# Altium integrated library power.IntLib: 11 symbols
Pins are listed as number, name and electrical type; pins without a type are passive.

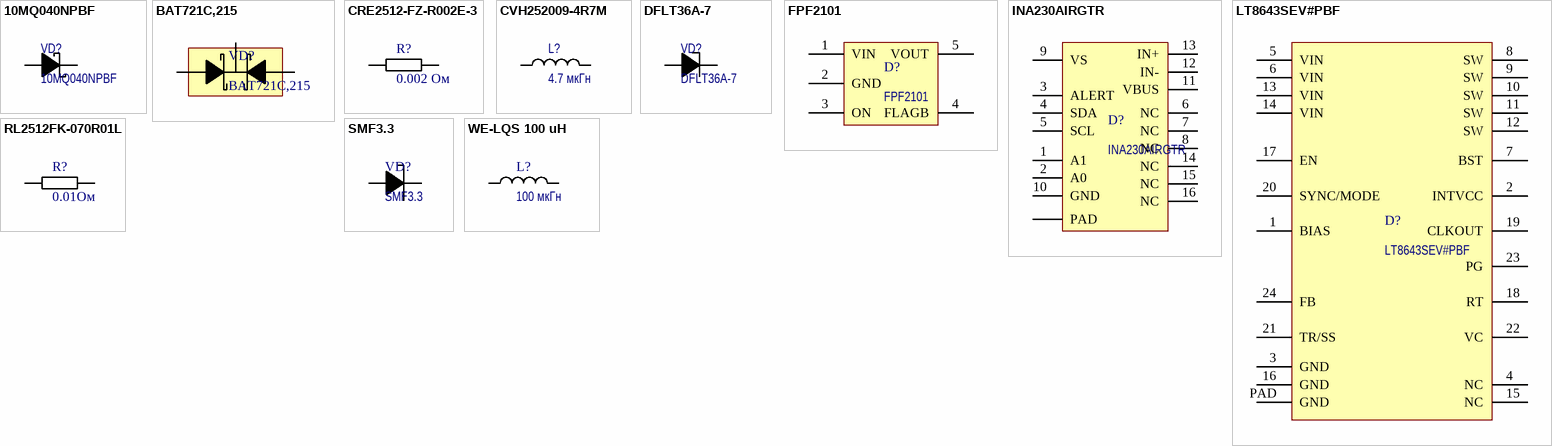
[diagram p0: symbols 10MQ040NPBF to WE-LQS 100 uH]

## 10MQ040NPBF
designator VD?
DIODE, SCHOTTKY, 1.5A, 40V; Manufacturer Part Number: 10MQ040NPBF; Supplier 1: https://www.chipdip.ru/product0/8001036515
footprint DO-214AC (SMA)
pins: 1 A, 2 K

## BAT721C,215
designator VD?
Small Signal Schottky Diode, Dual Common Cathode, 40 V, 200 mA, 300 mV, 1 A, 150 C; Manufacturer: Nexperia; Forward Current: 200mA; Max Forward Surge Current (Ifsm): 1A; Forward Voltage: 450mV; Max Reverse Current: 15uA; Value: 40pF; Reverse Voltage: 40V; Supplier: Rs; Supplier Part Number: 1661370; Manufacturer Part Number: BAT721C,215; RoHS: Yes; Category: Rectifier Diodes; Stock: 26600; Pricing: 3000=0,033 (GBP); Pins: 3NUMBER; Max Operating Temperature: 125°C; Height: 1.1mm; ComponentLink1URL: http://www.farnell.com/datasheets/2849919.pdf?src-supplier=Farnell; ComponentLink1Description: http://www.farnell.com/datasheets/2849919.pdf?src-supplier=Farnell; Supplier 1: https://www.chipdip.ru/product0/8001920743
footprint SOT95P230X110-3N
pins: 1 A, 2 A, 3 C

## CRE2512-FZ-R002E-3
designator R?, comment 0.002 Ом
Res Thick Film 2512 2m Ohm 1% 3W ±75ppm/°C Molded SMD Embossed T/R; Manufacturer: Bourns; Manufacturer Part Number: CRE2512-FZ-R002E-3; Value: 2mR; Supplier: Avnet; Supplier Part Number: CRE2512-FZ-R002E-3; RoHS: No; Category: Chip SMD Resistors; Stock: 8000; Pricing: 4000=0,284, 8000=0,278, 16000=0,272, 24000=0,266, 32000=0,26 (USD); Mounting Technology: Surface Mount; Case/Package: 2512; Case Code (Metric): 6432; Case Code (Imperial): 2512; Contact Plating: Tin; Min Operating Temperature: -55°C; Max Operating Temperature: 170°C; Power Rating: 3W; Tolerance: 1%; Packaging: Cut Tape; Resistor Type: Metal Alloy; Number of Terminations: 2; Termination: Solder; Max Power Dissipation: 3W; Temperature Coefficient: 75ppm/°C; Features: Moisture Resistant,Automotive AEC-Q200; Series: CRE2512; Resistance Tolerance: 1%; Technology: METAL STRIP; Length: 0.254inch; Width: 0.132inch; Height: 0.035inch; Depth: 3.35mm; Ratings: AEC-Q200; Reach SVHC Compliant: No; ComponentLink1URL: https://datasheet.ciiva.com/46424/1838634-46424789.pdf?src-supplier=Element14; ComponentLink1Description: https://datasheet.ciiva.com/46424/1838634-46424789.pdf?src-supplier=Element14; Supplier 1: https://www.chipdip.ru/product0/8001599140
footprint RES-2512
pins: 1, 2

## CVH252009-4R7M
designator L?, comment 4.7 мкГн
Inductor Power Chip Shielded Multi-Layer 4.7uH 20% 1MHz Ferrite 1.1A 110mOhm DCR 1008 T/R; Manufacturer: Bourns; Manufacturer Part Number: CVH252009-4R7M; Supplier: Rs; Supplier Part Number: 1808878; RoHS: Yes; Category: Fixed Inductors; Stock: 495; Pricing: 3000=25,352 (RUB); ComponentLink1URL: https://datasheet.ciiva.com/8003/1610598-8003733.pdf?src-supplier=Element14; ComponentLink1Description: https://datasheet.ciiva.com/8003/1610598-8003733.pdf?src-supplier=Element14; ComponentLink2URL: https://datasheet.ciiva.com/7849/1610598-7849319.pdf?src-supplier=Element14; ComponentLink2Description: https://datasheet.ciiva.com/7849/1610598-7849319.pdf?src-supplier=Element14; ComponentLink3URL: https://datasheet.ciiva.com/22874/70301233-22874397.pdf?src-supplier=Allied+Electronics; ComponentLink3Description: https://datasheet.ciiva.com/22874/70301233-22874397.pdf?src-supplier=Allied+Electronics; ComponentLink4URL: https://datasheet.ciiva.com/3079/cvh-3079748.pdf?src-supplier=Avnet; ComponentLink4Description: https://datasheet.ciiva.com/3079/cvh-3079748.pdf?src-supplier=Avnet; Supplier 1: https://www.chipdip.ru/product0/8002027222
footprint IND_1008
pins: 1, 2

## DFLT36A-7
designator VD?
Diode TVS Single Uni-Dir 36V 1.125KW 2-Pin PowerDI 123 T/R; Manufacturer: Diodes; Supplier: Arrow Electronics; Supplier Part Number: DFLT36A-7; Manufacturer Part Number: DFLT36A-7; RoHS: No; Category: TVS Diodes; Stock: 9000; Pricing: 3000=0,1109, 9000=0,0804 (USD); ComponentLink1URL: https://datasheet.ciiva.com/4511/ds30581-62296-4511072.pdf?src-supplier=Mouser; ComponentLink1Description: https://datasheet.ciiva.com/4511/ds30581-62296-4511072.pdf?src-supplier=Mouser; Supplier 1: https://www.chipdip.ru/product0/8001036515
footprint PowerDI-123
pins: 1 A, 2 K

## FPF2101
designator D?
FPF2101 Series 5.5 V 200 mA 160 mOhm P-Channel High Side Load Switch - SOT-23-5; Manufacturer: ON Semiconductor / Fairchild; Supplier: Arrow Electronics; Supplier Part Number: FPF2101; Manufacturer Part Number: FPF2101; RoHS: Yes; Category: Integrated Circuits (ICs); Stock: 74; Pricing: 1=0,7626, 10=0,722, 25=0,7007, 50=0,4848 (USD); ComponentLink1URL: https://datasheet.ciiva.com/3232/fpf2107-3232640.pdf?src-supplier=Avnet; ComponentLink1Description: https://datasheet.ciiva.com/3232/fpf2107-3232640.pdf?src-supplier=Avnet; ComponentLink2URL: https://datasheet.ciiva.com/15109/getdatasheetpartid-542876-15109156.pdf?src-supplier=Verical; ComponentLink2Description: https://datasheet.ciiva.com/15109/getdatasheetpartid-542876-15109156.pdf?src-supplier=Verical; ComponentLink3URL: https://datasheet.ciiva.com/4898/fpf2101-194974-4898421.pdf?src-supplier=Mouser; ComponentLink3Description: https://datasheet.ciiva.com/4898/fpf2101-194974-4898421.pdf?src-supplier=Mouser; ComponentLink4URL: https://datasheet.ciiva.com/3233/fpf2107-3233094.pdf?src-supplier=Avnet; ComponentLink4Description: https://datasheet.ciiva.com/3233/fpf2107-3233094.pdf?src-supplier=Avnet; ComponentLink5URL: https://datasheet.ciiva.com/1962/fpf2100-1962115.pdf?src-supplier=Digikey; ComponentLink5Description: https://datasheet.ciiva.com/1962/fpf2100-1962115.pdf?src-supplier=Digikey; ComponentLink6URL: https://datasheet.ciiva.com/1962/fpf2100-1962116.pdf?src-supplier=Digikey; ComponentLink6Description: https://datasheet.ciiva.com/1962/fpf2100-1962116.pdf?src-supplier=Digikey; ComponentLink7URL: https://datasheet.ciiva.com/1962/fpf2100-1962117.pdf?src-supplier=Digikey; ComponentLink7Description: https://datasheet.ciiva.com/1962/fpf2100-1962117.pdf?src-supplier=Digikey; ComponentLink8URL: https://datasheet.ciiva.com/1512/278716-1512464.pdf?src-supplier=Element14; ComponentLink8Description: https://datasheet.ciiva.com/1512/278716-1512464.pdf?src-supplier=Element14; Supplier 1: https://www.chipdip.ru/product0/8008458783
footprint SOT23
pins: 1 VIN, 2 GND, 3 ON, 4 FLAGB, 5 VOUT

## INA230AIRGTR
designator D?
36-V, 16-bit, I²C output current, voltage and power monitor with alert 16-VQFN -40 to 125; Manufacturer: Texas Instruments; Supplier: Digikey; Supplier Part Number: 296-36594-1-ND; Manufacturer Part Number: INA230AIRGTR; RoHS: Yes; Category: Amplifiers - Op Amps, Buffer, Instrumentation; Stock: 3132; Pricing: 1=2,83, 10=2,543, 25=2,3988, 100=2,0437, 250=1,919, 500=1,67912, 1000=1,39128 (USD); ComponentLink1URL: https://datasheet.ciiva.com/15132/getdatasheetpartid-614336-15132773.pdf?src-supplier=Verical; ComponentLink1Description: https://datasheet.ciiva.com/15132/getdatasheetpartid-614336-15132773.pdf?src-supplier=Verical; ComponentLink2URL: https://datasheet.ciiva.com/2965/ina230-2965732.pdf?src-supplier=Avnet; ComponentLink2Description: https://datasheet.ciiva.com/2965/ina230-2965732.pdf?src-supplier=Avnet; ComponentLink3URL: https://datasheet.ciiva.com/29609/ina230-29609254.pdf?src-supplier=Digikey; ComponentLink3Description: https://datasheet.ciiva.com/29609/ina230-29609254.pdf?src-supplier=Digikey; ComponentLink4URL: https://datasheet.ciiva.com/29609/ina230-29609255.pdf?src-supplier=Digikey; ComponentLink4Description: https://datasheet.ciiva.com/29609/ina230-29609255.pdf?src-supplier=Digikey; ComponentLink5URL: https://datasheet.ciiva.com/29609/ina230-29609256.pdf?src-supplier=Digikey; ComponentLink5Description: https://datasheet.ciiva.com/29609/ina230-29609256.pdf?src-supplier=Digikey; Supplier 1: https://www.chipdip.ru/product0/8004605923?ysclid=m1f43nxnn781516536
footprint VQFN-16
pins: 1 A1, 2 A0, 3 ALERT, 4 SDA, 5 SCL, 6 NC, 7 NC, 8 NC, 9 VS, 10 GND, 11 VBUS, 12 IN-, 13 IN+, 14 NC, 15 NC, 16 NC, PAD

## LT8643SEV#PBF
designator D?
LT8643S - 42V, 6A Synchronous Step-Down Silent Switcher 2 with 2.5μA Quiescent Current; Manufacturer: Analog Devices / Linear Technology; Supplier: Digikey; Supplier Part Number: 505-LT8643SEV#PBF-ND; Manufacturer Part Number: LT8643SEV#PBF; RoHS: Yes; Category: Voltage Regulators - Switching; Stock: 5889; Pricing: 1=11,62, 10=10,682, 25=10,2392, 80=9,02175, 230=8,57896, 540=8,02546, 1080=7,36129 (USD); ComponentLink1URL: https://datasheet.octopart.com/LT8643SEV%23PBF-Analog-Devices-datasheet-155132988.pdf?src-supplier=Element14; ComponentLink1Description: https://datasheet.octopart.com/LT8643SEV%23PBF-Analog-Devices-datasheet-155132988.pdf?src-supplier=Element14; ComponentLink2URL: http://www.analog.com/media/en/technical-documentation/data-sheets/8640sfa.pdf?src-supplier=Digikey; ComponentLink2Description: http://www.analog.com/media/en/technical-documentation/data-sheets/8640sfa.pdf?src-supplier=Digikey; ComponentLink3URL: https://datasheet.octopart.com/LT8643SEV%23PBF-Linear-Technology-datasheet-86646794.pdf?src-supplier=Newark; ComponentLink3Description: https://datasheet.octopart.com/LT8643SEV%23PBF-Linear-Technology-datasheet-86646794.pdf?src-supplier=Newark; Supplier 1: https://www.chipdip.ru/product0/8007694989?ysclid=m1f3vwzhuq333121469
footprint LQF-24
footprint LQF-24
pins: 1 BIAS, 2 INTVCC, 3 GND, 4 NC, 5 VIN, 6 VIN, 7 BST, 8 SW, 9 SW, 10 SW, 11 SW, 12 SW, 13 VIN, 14 VIN, 15 NC, 16 GND, 17 EN, 18 RT, 19 CLKOUT, 20 SYNC/MODE, 21 TR/SS, 22 VC, 23 PG, 24 FB, PAD GND

## RL2512FK-070R01L
designator R?, comment 0.01Ом
Res Thick Film 2512 0.01 Ohm 1% 1W ±1500ppm/C Pad SMD Automotive T/R; Manufacturer: Yageo; Manufacturer Part Number: RL2512FK-070R01L; Value: 10mR; Temperature Coefficient: 1500ppm/°C; Voltage Rating: 500V; Supplier: Rs; Supplier Part Number: 1996117; RoHS: Yes; Category: Chip SMD Resistors; Stock: 1740; Pricing: 10=0,234, 100=0,217, 250=0,198, 500=0,185, 1000=0,161 (GBP); Case/Package: 2512; Contact Plating: Tin,Matte; Case Code (Imperial): 2512; Case Code (Metric): 6432; Min Operating Temperature: -55°C; Max Operating Temperature: 125°C; Tolerance: 1%; Power Rating: 1W; Packaging: Tape and Reel; Termination: SMD/SMT; Features: Moisture Resistant,Automotive AEC-Q200; Series: RL; Max Power Dissipation: 1W; Number of Terminations: 2; Lead Free: Lead Free; RoHS Compliant: Yes; ComponentLink1URL: https://datasheet.ciiva.com/8891/pyu-rl-521-rohs-l-5-8891318.pdf?src-supplier=Avnet; ComponentLink1Description: https://datasheet.ciiva.com/8891/pyu-rl-521-rohs-l-5-8891318.pdf?src-supplier=Avnet; Supplier 1: https://www.chipdip.ru/product0/8670664082
footprint RES-2512
pins: 1, 2

## SMF3.3
designator VD?
SMF Series 200 W 3.3 V Uni-Directional Surface Mount TVS Diode - SOD-123FL; Manufacturer: Littelfuse; Direction: 210Direction; Breakdown Voltage: 3.4V; Number of Unidirectional Channels: 1; Reverse Standoff Voltage: 3.3V; Peak Pulse Current: 30A; Peak Pulse Power: 200W; Power Line Protection: No; Diode Type: ZENER; Max Breakdown Voltage: 4.3V; Max Reverse Leakage Current: 500nA; Number of Channels: 1NUMBER; Test Current: 10mA; Supplier: Rs; Supplier Part Number: 2130890P; Manufacturer Part Number: SMF3.3; RoHS: Yes; Category: TVS Diodes; Stock: 7875; Pricing: 50=0,264, 100=0,176, 250=0,172, 1000=0,168 (GBP); Mounting Technology: Surface Mount; Min Operating Temperature: -55°C; Max Operating Temperature: 150°C; Packaging: Cut Tape; Min Breakdown Voltage: 3.4V; Series: SMF; Reverse Voltage: 3.3V; Height: 1.08mm; RoHS Compliant: Yes; Supplier 1: https://www.chipdip.ru/product0/8001954852
footprint SOD-123FL
pins: 1 A, 2 K

## WE-LQS 100 uH
designator L?, comment 100 мкГн
Inductor; Supplier 1: https://www.chipdip.ru/product0/8020123052
footprint IND-WE-LQS-3015
pins: 1, 2